# EAGLE library part BQ21040M (library Misc ICs)
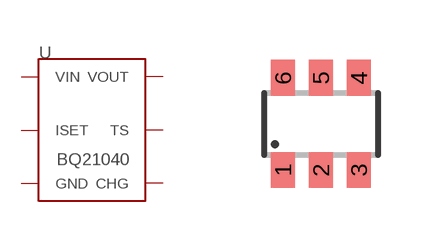
[diagram p2: symbol with the pads of SOT23-6; footprint SOT23-6]

Designator prefix -

## BQ21040M  [SOT23-6]
1  TS  in
2  VOUT  pwr
3  CHG  out
4  VIN  pwr
5  GND  pwr
6  ISET  in

## Footprint SOT23-6 (pad centres in mm)
Small Outline Transistor 6 lead
smd 0.6 x 0.9: 1 -0.95,-1.15; 2 0,-1.15; 3 0.95,-1.15; 4 0.95,1.15; 5 0,1.15; 6 -0.95,1.15